# EAGLE library part CON03X2 (library Stecker_Pins)
Pin-Leiste, 3*2
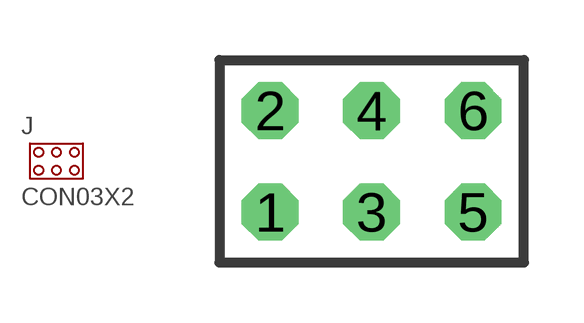
[diagram p0: symbol with the pads of CON03X2; footprint CON03X2]

Designator prefix J

## CON03X2  [CON03X2]
1  1  in
2  2  in
3  3  in
4  4  in
5  5  in
6  6  in

## Footprint CON03X2 (pad centres in mm)
drill 0.8 pad 1.422 octagon: 1 0,0; 2 0,2.54; 3 2.54,0; 4 2.54,2.54; 5 5.08,0; 6 5.08,2.54